# EAGLE library part 93LC46 (library harrison)
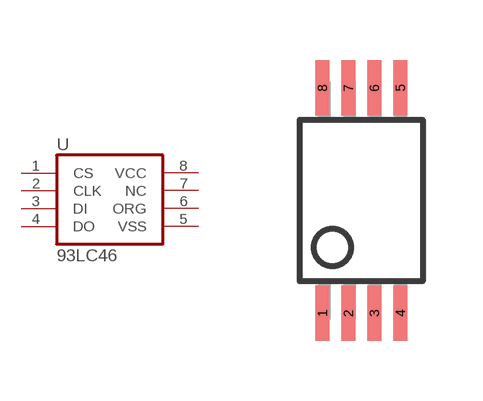
[diagram p52: symbol with the pads of TSSOP-8; footprint TSSOP-8]

Designator prefix U

## 93LC46  [TSSOP-8]
1  CS  in
2  CLK  in
3  DI  in
4  DO  out
5  VSS  pwr
6  ORG  in
7  NC  nc
8  VCC  pwr

## Footprint TSSOP-8 (pad centres in mm)
smd 0.348 x 1.397: 1 -0.973,-2.814; 2 -0.323,-2.815; 3 0.327,-2.815; 4 0.977,-2.815; 5 0.977,2.825; 6 0.327,2.825; 7 -0.323,2.825; 8 -0.973,2.825